# Altium footprint library TMDE_REV1.0.PcbLib: 84 footprints (part 6 of 6)
Each footprint in its own frame and in the unit in brackets; x right, y up, seen from the top. Pads: shape width x height; smd on the part's side, far side on the other; paste and mask are expansions set on the pad; w line width, h text height; cw(c..) or ccw(c..) is an arc to the next point about the centre after c.
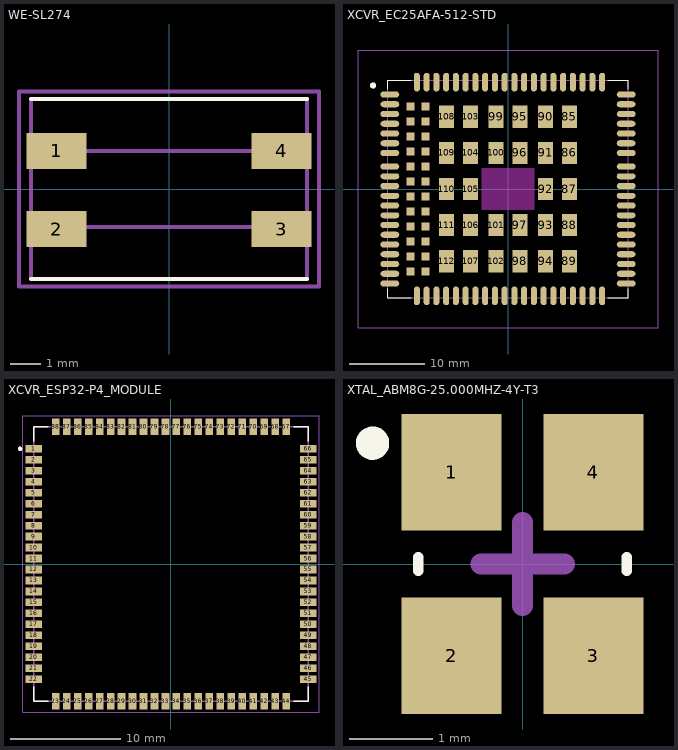
[diagram p5: the footprints below, top view; thin cyan lines are the x and y axes]

## WE-SL274 [mm]
pads (4):
  rect 2x1.2 smd: 1(-3.75,1.27) 2(-3.75,-1.34) 3(3.75,-1.34) 4(3.75,1.27)
Top Overlay:
  lines w0.127: -4.6,-3 4.6,-3 ; -4.6,3 4.6,3
Mechanical 13:
  lines w0.127: -4.6,-3 -4.6,3 ; -3.81,-1.27 3.81,-1.27 ; -3.81,1.27 3.81,1.27 ; 4.6,-3 4.6,3
Mechanical 15:
  lines w0.127: -5,-3.25 -5,3.25 5,3.25 5,-3.25 -5,-3.25
3D body "744227S.stp": height 5, standoff 0, extent -4.6,-3 4.6,3

## XCVR_EC25AFA-512-STD [mm]
pads (132):
  oval 2.5x0.8 smd paste-2: 1(-15.75,12.6) 2(-15.75,11.3) 3(-15.75,10) 4(-15.75,8.7) 5(-15.75,7.4) 6(-15.75,6.1) 7(-15.75,4.8) 8(-15.75,0.4) 9(-15.75,-0.9) 10(-15.75,-2.2) 11(-15.75,-3.5) 12(-15.75,-4.8) 13(-15.75,-6.1) 14(-15.75,-7.4) 15(-15.75,-8.7) 16(-15.75,-10) 17(-15.75,-11.3) 18(-15.75,-12.6) 37(15.75,-12.6) 38(15.75,-11.3) 39(15.75,-10) 40(15.75,-8.7) 41(15.75,-7.4) 42(15.75,-6.1) 43(15.75,-4.8) 44(15.75,-3.5) 45(15.75,-2.2) 46(15.75,-0.9) 47(15.75,0.4) 48(15.75,4.8) 49(15.75,6.1) 50(15.75,7.4) 51(15.75,8.7) 52(15.75,10) 53(15.75,11.3) 54(15.75,12.6) 141(-15.75,3) 142(-15.75,1.7) 143(15.75,1.7) 144(15.75,3)
  oval 0.8x2.5 smd paste-2: 19(-9.55,-14.25) 20(-8.25,-14.25) 21(-6.95,-14.25) 22(-5.65,-14.25) 23(-4.35,-14.25) 24(-3.05,-14.25) 25(-1.75,-14.25) 26(-0.45,-14.25) 27(0.85,-14.25) 28(2.15,-14.25) 29(3.45,-14.25) 30(4.75,-14.25) 31(6.05,-14.25) 32(7.35,-14.25) 33(8.65,-14.25) 34(9.95,-14.25) 35(11.25,-14.25) 36(12.55,-14.25) 55(12.55,14.25) 56(11.25,14.25) 57(9.95,14.25) 58(8.65,14.25) 59(7.35,14.25) 60(6.05,14.25) 61(4.75,14.25) 62(3.45,14.25) 63(2.15,14.25) 64(0.85,14.25) 65(-0.45,14.25) 66(-1.75,14.25) 67(-3.05,14.25) 68(-4.35,14.25) 69(-5.65,14.25) 70(-6.95,14.25) 71(-8.25,14.25) 72(-9.55,14.25) 113(-10.85,14.25) 114(-12.15,14.25) 115(-10.85,-14.25) 116(-12.15,-14.25)
  rect 2x3 smd paste-3: 85(8.2,9.6) 86(8.2,4.8) 87(8.2,0) 88(8.2,-4.8) 89(8.2,-9.6) 90(5,9.6) 91(5,4.8) 92(5,0) 93(5,-4.8) 94(5,-9.6) 95(1.6,9.6) 96(1.6,4.8) 97(1.6,-4.8) 98(1.6,-9.6) 99(-1.6,9.6) 100(-1.6,4.8) 101(-1.6,-4.8) 102(-1.6,-9.6) 103(-5,9.6) 104(-5,4.8) 105(-5,0) 106(-5,-4.8) 107(-5,-9.6) 108(-8.2,9.6) 109(-8.2,4.8) 110(-8.2,0) 111(-8.2,-4.8) 112(-8.2,-9.6)
  rect 1.1x1.1 smd paste-2: 117(-11,11) 118(-11,9) 119(-11,7) 120(-11,5) 121(-11,3) 122(-11,1) 123(-11,-1) 124(-11,-3) 125(-11,-5) 126(-11,-7) 127(-11,-9) 128(-11,-11) 129(-13,11) 130(-13,9) 131(-13,7) 132(-13,5) 133(-13,3) 134(-13,1) 135(-13,-1) 136(-13,-3) 137(-13,-5) 138(-13,-7) 139(-13,-9) 140(-13,-11)
Top Overlay:
  circle w0.4: c-18,13.8 r0.2
  lines w0.127: -16,-13.32 -16,-14.5 -12.87,-14.5 ; -16,13.32 -16,14.5 -12.87,14.5 ; 13.27,-14.5 16,-14.5 16,-13.32 ; 13.27,14.5 16,14.5 16,13.32
Top Paste:
  drawing of 218 lines, arcs and shapes, not listed
Keep-Out Layer:
  region: 3.5,-2.8 -3.5,-2.8 -3.5,2.8 3.5,2.8
Mechanical 13:
  circle w0.4: c-18,13.8 r0.2
  lines w0.127: -16,-14.5 16,-14.5 16,14.5 -16,14.5 -16,-14.5
Mechanical 15:
  lines w0.05: -20,-18.5 -20,18.5 20,18.5 20,-18.5 -20,-18.5
3D body "step_temp.STEP": height 2.4, standoff 0, extent -16,-14.5 16,14.5

## XCVR_ESP32-P4_MODULE [mm]
height 3.3
pads (88):
  rect 1.5x0.7 smd paste+0 mask+0.102: 1(-12.5,10.5) 2(-12.5,9.5) 3(-12.5,8.5) 4(-12.5,7.5) 5(-12.5,6.5) 6(-12.5,5.5) 7(-12.5,4.5) 8(-12.5,3.5) 9(-12.5,2.5) 10(-12.5,1.5) 11(-12.5,0.5) 12(-12.5,-0.5) 13(-12.5,-1.5) 14(-12.5,-2.5) 15(-12.5,-3.5) 16(-12.5,-4.5) 17(-12.5,-5.5) 18(-12.5,-6.5) 19(-12.5,-7.5) 20(-12.5,-8.5) 21(-12.5,-9.5) 22(-12.5,-10.5) 45(12.5,-10.5) 46(12.5,-9.5) 47(12.5,-8.5) 48(12.5,-7.5) 49(12.5,-6.5) 50(12.5,-5.5) 51(12.5,-4.5) 52(12.5,-3.5) 53(12.5,-2.5) 54(12.5,-1.5) 55(12.5,-0.5) 56(12.5,0.5) 57(12.5,1.5) 58(12.5,2.5) 59(12.5,3.5) 60(12.5,4.5) 61(12.5,5.5) 62(12.5,6.5) 63(12.5,7.5) 64(12.5,8.5) 65(12.5,9.5) 66(12.5,10.5)
  rect 0.7x1.5 smd paste+0 mask+0.102: 23(-10.5,-12.5) 24(-9.5,-12.5) 25(-8.5,-12.5) 26(-7.5,-12.5) 27(-6.5,-12.5) 28(-5.5,-12.5) 29(-4.5,-12.5) 30(-3.5,-12.5) 31(-2.5,-12.5) 32(-1.5,-12.5) 33(-0.5,-12.5) 34(0.5,-12.5) 35(1.5,-12.5) 36(2.5,-12.5) 37(3.5,-12.5) 38(4.5,-12.5) 39(5.5,-12.5) 40(6.5,-12.5) 41(7.5,-12.5) 42(8.5,-12.5) 43(9.5,-12.5) 44(10.5,-12.5) 67(10.5,12.5) 68(9.5,12.5) 69(8.5,12.5) 70(7.5,12.5) 71(6.5,12.5) 72(5.5,12.5) 73(4.5,12.5) 74(3.5,12.5) 75(2.5,12.5) 76(1.5,12.5) 77(0.5,12.5) 78(-0.5,12.5) 79(-1.5,12.5) 80(-2.5,12.5) 81(-3.5,12.5) 82(-4.5,12.5) 83(-5.5,12.5) 84(-6.5,12.5) 85(-7.5,12.5) 86(-8.5,12.5) 87(-9.5,12.5) 88(-10.5,12.5)
Top Overlay:
  circle w0.2: c-13.75,10.5 r0.1
  lines w0.127: -12.5,-11.2 -12.5,-12.5 -11.2,-12.5 ; -12.5,11.2 -12.5,12.5 -11.2,12.5 ; 11.2,-12.5 12.5,-12.5 12.5,-11.2 ; 11.2,12.5 12.5,12.5 12.5,11.2
Mechanical 13:
  circle w0.2: c-13.75,10.5 r0.1
  lines w0.127: -12.5,-12.5 12.5,-12.5 12.5,12.5 -12.5,12.5 -12.5,-12.5
Mechanical 15:
  lines w0.05: -13.5,-13.5 -13.5,13.5 13.5,13.5 13.5,-13.5 -13.5,-13.5
3D body "step_temp.STEP": height 3.3, standoff 0, extent -12.5,-12.5 12.5,12.5

## XTAL_ABM8G-25.000MHZ-4Y-T3 [mm]
pads (4):
  rect 1.2x1.4 smd: 1(-0.85,1.1) 2(-0.85,-1.1) 3(0.85,-1.1) 4(0.85,1.1)
Top Overlay:
  circle w0.2: c-1.8,1.45 r0.1
  lines w0.127: -1.25,-0.08 -1.25,0.08 ; 1.25,-0.08 1.25,0.08
Mechanical 16:
  lines w0.254: -0.5,0 0,0 ; 0,-0.5 0,0 ; 0,0.5 0,0 ; 0.5,0 0,0
3D body "step_temp.STEP": height 0.99, standoff 0, extent -1.6,-1.245 1.6,1.245